# Altium footprint library Connector_PinHeader_1.27mm.PcbLib: 278 footprints (part 10 of 18)
Each footprint in its own frame and in the unit in brackets; x right, y up, seen from the top. Pads: shape width x height; smd on the part's side, far side on the other; paste and mask are expansions set on the pad; w line width, h text height; cw(c..) or ccw(c..) is an arc to the next point about the centre after c.
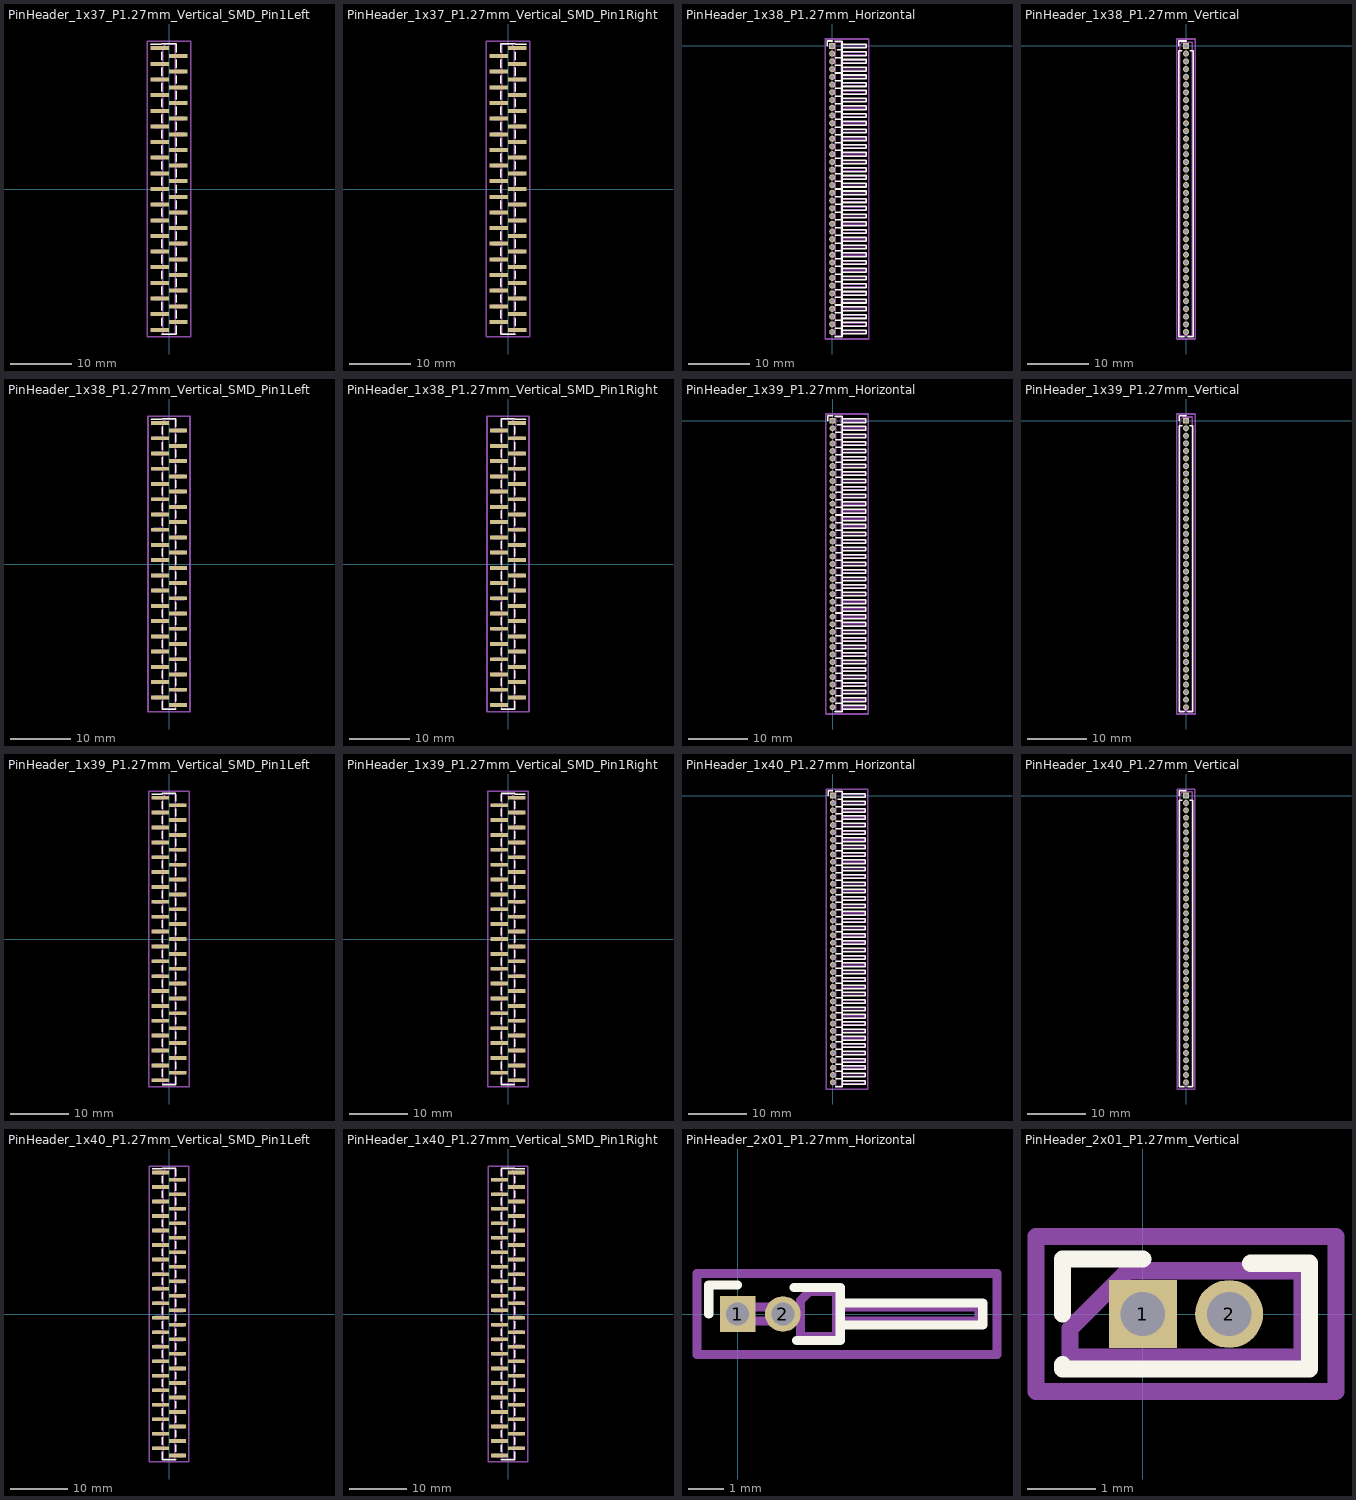
[diagram p9: the footprints below, top view; thin cyan lines are the x and y axes]

## PinHeader_1x37_P1.27mm_Vertical_SMD_Pin1Left [mm]
pads (37):
  rect 3x0.65 smd: 1(-1.5,22.86) 2(1.5,21.59) 3(-1.5,20.32) 4(1.5,19.05) 5(-1.5,17.78) 6(1.5,16.51) 7(-1.5,15.24) 8(1.5,13.97) 9(-1.5,12.7) 10(1.5,11.43) 11(-1.5,10.16) 12(1.5,8.89) 13(-1.5,7.62) 14(1.5,6.35) 15(-1.5,5.08) 16(1.5,3.81) 17(-1.5,2.54) 18(1.5,1.27) 19(-1.5,0) 20(1.5,-1.27) 21(-1.5,-2.54) 22(1.5,-3.81) 23(-1.5,-5.08) 24(1.5,-6.35) 25(-1.5,-7.62) 26(1.5,-8.89) 27(-1.5,-10.16) 28(1.5,-11.43) 29(-1.5,-12.7) 30(1.5,-13.97) 31(-1.5,-15.24) 32(1.5,-16.51) 33(-1.5,-17.78) 34(1.5,-19.05) 35(-1.5,-20.32) 36(1.5,-21.59) 37(-1.5,-22.86)
F.SilkS:
  lines w0.254: -2.94,23.495 -1.16,23.495 -1.16,23.605 1.16,23.605 ; -1.16,-23.605 1.16,-23.605 ; -1.16,-22.225 -1.16,-20.955 ; -1.16,-19.685 -1.16,-18.415 ; -1.16,-17.145 -1.16,-15.875 ; -1.16,-14.605 -1.16,-13.335 ; -1.16,-12.065 -1.16,-10.795 ; -1.16,-9.525 -1.16,-8.255 ; -1.16,-6.985 -1.16,-5.715 ; -1.16,-4.445 -1.16,-3.175 ; -1.16,-1.905 -1.16,-0.635 ; -1.16,0.635 -1.16,1.905 ; -1.16,3.175 -1.16,4.445 ; -1.16,5.715 -1.16,6.985 ; -1.16,8.255 -1.16,9.525 ; -1.16,10.795 -1.16,12.065 ; -1.16,13.335 -1.16,14.605 ; -1.16,15.875 -1.16,17.145 ; -1.16,18.415 -1.16,19.685 ; -1.16,20.955 -1.16,22.225 ; 1.16,-23.495 1.16,-23.605 ; 1.16,-22.225 1.16,-23.605 ; 1.16,-20.955 1.16,-19.685 ; 1.16,-18.415 1.16,-17.145 ; 1.16,-15.875 1.16,-14.605 ; 1.16,-13.335 1.16,-12.065 ; 1.16,-10.795 1.16,-9.525 ; 1.16,-8.255 1.16,-6.985 ; 1.16,-5.715 1.16,-4.445 ; 1.16,-3.175 1.16,-1.905 ; 1.16,-0.635 1.16,0.635 ; 1.16,1.905 1.16,3.175 ; 1.16,4.445 1.16,5.715 ; 1.16,6.985 1.16,8.255 ; 1.16,9.525 1.16,10.795 ; 1.16,12.065 1.16,13.335 ; 1.16,14.605 1.16,15.875 ; 1.16,17.145 1.16,18.415 ; 1.16,19.685 1.16,20.955 ; 1.16,22.225 1.16,23.495
Top Assembly:
  lines w0.254: -1.05,-23.06 -2.5,-23.06 -2.5,-22.66 -1.05,-22.66 ; -1.05,-20.52 -2.5,-20.52 -2.5,-20.12 -1.05,-20.12 ; -1.05,-17.98 -2.5,-17.98 -2.5,-17.58 -1.05,-17.58 ; -1.05,-15.44 -2.5,-15.44 -2.5,-15.04 -1.05,-15.04 ; -1.05,-12.9 -2.5,-12.9 -2.5,-12.5 -1.05,-12.5 ; -1.05,-10.36 -2.5,-10.36 -2.5,-9.96 -1.05,-9.96 ; -1.05,-7.82 -2.5,-7.82 -2.5,-7.42 -1.05,-7.42 ; -1.05,-5.28 -2.5,-5.28 -2.5,-4.88 -1.05,-4.88 ; -1.05,-2.74 -2.5,-2.74 -2.5,-2.34 -1.05,-2.34 ; -1.05,-0.2 -2.5,-0.2 -2.5,0.2 -1.05,0.2 ; -1.05,2.34 -2.5,2.34 -2.5,2.74 -1.05,2.74 ; -1.05,4.88 -2.5,4.88 -2.5,5.28 -1.05,5.28 ; -1.05,7.42 -2.5,7.42 -2.5,7.82 -1.05,7.82 ; -1.05,9.96 -2.5,9.96 -2.5,10.36 -1.05,10.36 ; -1.05,12.5 -2.5,12.5 -2.5,12.9 -1.05,12.9 ; -1.05,15.04 -2.5,15.04 -2.5,15.44 -1.05,15.44 ; -1.05,17.58 -2.5,17.58 -2.5,17.98 -1.05,17.98 ; -1.05,20.12 -2.5,20.12 -2.5,20.52 -1.05,20.52 ; -1.05,22.66 -2.5,22.66 -2.5,23.06 -1.05,23.06 ; 1.05,-21.79 2.5,-21.79 2.5,-21.39 1.05,-21.39 ; 1.05,-19.25 2.5,-19.25 2.5,-18.85 1.05,-18.85 ; 1.05,-16.71 2.5,-16.71 2.5,-16.31 1.05,-16.31 ; 1.05,-14.17 2.5,-14.17 2.5,-13.77 1.05,-13.77 ; 1.05,-11.63 2.5,-11.63 2.5,-11.23 1.05,-11.23 ; 1.05,-9.09 2.5,-9.09 2.5,-8.69 1.05,-8.69 ; 1.05,-6.55 2.5,-6.55 2.5,-6.15 1.05,-6.15 ; 1.05,-4.01 2.5,-4.01 2.5,-3.61 1.05,-3.61 ; 1.05,-1.47 2.5,-1.47 2.5,-1.07 1.05,-1.07 ; 1.05,1.07 2.5,1.07 2.5,1.47 1.05,1.47 ; 1.05,3.61 2.5,3.61 2.5,4.01 1.05,4.01 ; 1.05,6.15 2.5,6.15 2.5,6.55 1.05,6.55 ; 1.05,8.69 2.5,8.69 2.5,9.09 1.05,9.09 ; 1.05,11.23 2.5,11.23 2.5,11.63 1.05,11.63 ; 1.05,13.77 2.5,13.77 2.5,14.17 1.05,14.17 ; 1.05,16.31 2.5,16.31 2.5,16.71 1.05,16.71 ; 1.05,18.85 2.5,18.85 2.5,19.25 1.05,19.25 ; 1.05,21.39 2.5,21.39 2.5,21.79 1.05,21.79 ; -1.05,23.06 -1.05,-23.495 1.05,-23.495 1.05,23.495 -0.615,23.495 -1.05,23.06
  text "'.Designator'" at 0.84,-4.047 h1
Top Courtyard:
  lines w0.254: -3.5,-24 3.5,-24 3.5,24 -3.5,24 -3.5,-24
Top Designator:
  text ".Designator" at -7.618,-0.508 h1.52

## PinHeader_1x37_P1.27mm_Vertical_SMD_Pin1Right [mm]
pads (37):
  rect 3x0.65 smd: 1(1.5,22.86) 2(-1.5,21.59) 3(1.5,20.32) 4(-1.5,19.05) 5(1.5,17.78) 6(-1.5,16.51) 7(1.5,15.24) 8(-1.5,13.97) 9(1.5,12.7) 10(-1.5,11.43) 11(1.5,10.16) 12(-1.5,8.89) 13(1.5,7.62) 14(-1.5,6.35) 15(1.5,5.08) 16(-1.5,3.81) 17(1.5,2.54) 18(-1.5,1.27) 19(1.5,0) 20(-1.5,-1.27) 21(1.5,-2.54) 22(-1.5,-3.81) 23(1.5,-5.08) 24(-1.5,-6.35) 25(1.5,-7.62) 26(-1.5,-8.89) 27(1.5,-10.16) 28(-1.5,-11.43) 29(1.5,-12.7) 30(-1.5,-13.97) 31(1.5,-15.24) 32(-1.5,-16.51) 33(1.5,-17.78) 34(-1.5,-19.05) 35(1.5,-20.32) 36(-1.5,-21.59) 37(1.5,-22.86)
F.SilkS:
  lines w0.254: -1.16,-23.495 -1.16,-23.605 ; -1.16,-22.225 -1.16,-23.605 ; -1.16,-20.955 -1.16,-19.685 ; -1.16,-18.415 -1.16,-17.145 ; -1.16,-15.875 -1.16,-14.605 ; -1.16,-13.335 -1.16,-12.065 ; -1.16,-10.795 -1.16,-9.525 ; -1.16,-8.255 -1.16,-6.985 ; -1.16,-5.715 -1.16,-4.445 ; -1.16,-3.175 -1.16,-1.905 ; -1.16,-0.635 -1.16,0.635 ; -1.16,1.905 -1.16,3.175 ; -1.16,4.445 -1.16,5.715 ; -1.16,6.985 -1.16,8.255 ; -1.16,9.525 -1.16,10.795 ; -1.16,12.065 -1.16,13.335 ; -1.16,14.605 -1.16,15.875 ; -1.16,17.145 -1.16,18.415 ; -1.16,19.685 -1.16,20.955 ; -1.16,23.605 1.16,23.605 1.16,23.495 2.94,23.495 ; 1.16,-23.605 -1.16,-23.605 ; 1.16,-22.225 1.16,-20.955 ; 1.16,-19.685 1.16,-18.415 ; 1.16,-17.145 1.16,-15.875 ; 1.16,-14.605 1.16,-13.335 ; 1.16,-12.065 1.16,-10.795 ; 1.16,-9.525 1.16,-8.255 ; 1.16,-6.985 1.16,-5.715 ; 1.16,-4.445 1.16,-3.175 ; 1.16,-1.905 1.16,-0.635 ; 1.16,0.635 1.16,1.905 ; 1.16,3.175 1.16,4.445 ; 1.16,5.715 1.16,6.985 ; 1.16,8.255 1.16,9.525 ; 1.16,10.795 1.16,12.065 ; 1.16,13.335 1.16,14.605 ; 1.16,15.875 1.16,17.145 ; 1.16,18.415 1.16,19.685 ; 1.16,20.955 1.16,22.225 ; -1.16,22.225 -1.16,23.495 -1.16,22.225
Top Assembly:
  lines w0.254: -1.05,-21.79 -2.5,-21.79 -2.5,-21.39 -1.05,-21.39 ; -1.05,-19.25 -2.5,-19.25 -2.5,-18.85 -1.05,-18.85 ; -1.05,-16.71 -2.5,-16.71 -2.5,-16.31 -1.05,-16.31 ; -1.05,-14.17 -2.5,-14.17 -2.5,-13.77 -1.05,-13.77 ; -1.05,-11.63 -2.5,-11.63 -2.5,-11.23 -1.05,-11.23 ; -1.05,-9.09 -2.5,-9.09 -2.5,-8.69 -1.05,-8.69 ; -1.05,-6.55 -2.5,-6.55 -2.5,-6.15 -1.05,-6.15 ; -1.05,-4.01 -2.5,-4.01 -2.5,-3.61 -1.05,-3.61 ; -1.05,-1.47 -2.5,-1.47 -2.5,-1.07 -1.05,-1.07 ; -1.05,1.07 -2.5,1.07 -2.5,1.47 -1.05,1.47 ; -1.05,3.61 -2.5,3.61 -2.5,4.01 -1.05,4.01 ; -1.05,6.15 -2.5,6.15 -2.5,6.55 -1.05,6.55 ; -1.05,8.69 -2.5,8.69 -2.5,9.09 -1.05,9.09 ; -1.05,11.23 -2.5,11.23 -2.5,11.63 -1.05,11.63 ; -1.05,13.77 -2.5,13.77 -2.5,14.17 -1.05,14.17 ; -1.05,16.31 -2.5,16.31 -2.5,16.71 -1.05,16.71 ; -1.05,18.85 -2.5,18.85 -2.5,19.25 -1.05,19.25 ; -1.05,21.39 -2.5,21.39 -2.5,21.79 -1.05,21.79 ; 1.05,-23.06 2.5,-23.06 2.5,-22.66 1.05,-22.66 ; 1.05,-20.52 2.5,-20.52 2.5,-20.12 1.05,-20.12 ; 1.05,-17.98 2.5,-17.98 2.5,-17.58 1.05,-17.58 ; 1.05,-15.44 2.5,-15.44 2.5,-15.04 1.05,-15.04 ; 1.05,-12.9 2.5,-12.9 2.5,-12.5 1.05,-12.5 ; 1.05,-10.36 2.5,-10.36 2.5,-9.96 1.05,-9.96 ; 1.05,-7.82 2.5,-7.82 2.5,-7.42 1.05,-7.42 ; 1.05,-5.28 2.5,-5.28 2.5,-4.88 1.05,-4.88 ; 1.05,-2.74 2.5,-2.74 2.5,-2.34 1.05,-2.34 ; 1.05,-0.2 2.5,-0.2 2.5,0.2 1.05,0.2 ; 1.05,2.34 2.5,2.34 2.5,2.74 1.05,2.74 ; 1.05,4.88 2.5,4.88 2.5,5.28 1.05,5.28 ; 1.05,7.42 2.5,7.42 2.5,7.82 1.05,7.82 ; 1.05,9.96 2.5,9.96 2.5,10.36 1.05,10.36 ; 1.05,12.5 2.5,12.5 2.5,12.9 1.05,12.9 ; 1.05,15.04 2.5,15.04 2.5,15.44 1.05,15.44 ; 1.05,17.58 2.5,17.58 2.5,17.98 1.05,17.98 ; 1.05,20.12 2.5,20.12 2.5,20.52 1.05,20.52 ; 1.05,22.66 2.5,22.66 2.5,23.06 1.05,23.06 ; 1.05,23.06 1.05,-23.495 -1.05,-23.495 -1.05,23.495 0.615,23.495 1.05,23.06
  text "'.Designator'" at 0.84,-4.047 h1
Top Courtyard:
  lines w0.254: -3.5,-24 3.5,-24 3.5,24 -3.5,24 -3.5,-24
Top Designator:
  text ".Designator" at -7.618,-0.508 h1.52

## PinHeader_1x38_P1.27mm_Horizontal [mm]
pads (38):
  rect 1x1 hole 0.65: 1(0,0)
  round 1 hole 0.65: 2(0,-1.27) 3(0,-2.54) 4(0,-3.81) 5(0,-5.08) 6(0,-6.35) 7(0,-7.62) 8(0,-8.89) 9(0,-10.16) 10(0,-11.43) 11(0,-12.7) 12(0,-13.97) 13(0,-15.24) 14(0,-16.51) 15(0,-17.78) 16(0,-19.05) 17(0,-20.32) 18(0,-21.59) 19(0,-22.86) 20(0,-24.13) 21(0,-25.4) 22(0,-26.67) 23(0,-27.94) 24(0,-29.21) 25(0,-30.48) 26(0,-31.75) 27(0,-33.02) 28(0,-34.29) 29(0,-35.56) 30(0,-36.83) 31(0,-38.1) 32(0,-39.37) 33(0,-40.64) 34(0,-41.91) 35(0,-43.18) 36(0,-44.45) 37(0,-45.72) 38(0,-46.99)
F.SilkS:
  drawing of 157 lines, arcs and shapes, not listed
Top Assembly:
  drawing of 233 lines, arcs and shapes, not listed
  text "'.Designator'" at 1.504,-25.923 h0.6
Top Courtyard:
  lines w0.254: -1.14,-48.13 6,-48.13 6,1.14 -1.14,1.14 -1.14,-48.13
Top Designator:
  text ".Designator" at -5.188,-24.003 h1.52

## PinHeader_1x38_P1.27mm_Vertical [mm]
pads (38):
  rect 1x1 hole 0.65: 1(0,0)
  round 1 hole 0.65: 2(0,-1.27) 3(0,-2.54) 4(0,-3.81) 5(0,-5.08) 6(0,-6.35) 7(0,-7.62) 8(0,-8.89) 9(0,-10.16) 10(0,-11.43) 11(0,-12.7) 12(0,-13.97) 13(0,-15.24) 14(0,-16.51) 15(0,-17.78) 16(0,-19.05) 17(0,-20.32) 18(0,-21.59) 19(0,-22.86) 20(0,-24.13) 21(0,-25.4) 22(0,-26.67) 23(0,-27.94) 24(0,-29.21) 25(0,-30.48) 26(0,-31.75) 27(0,-33.02) 28(0,-34.29) 29(0,-35.56) 30(0,-36.83) 31(0,-38.1) 32(0,-39.37) 33(0,-40.64) 34(0,-41.91) 35(0,-43.18) 36(0,-44.45) 37(0,-45.72) 38(0,-46.99)
F.SilkS:
  lines w0.254: -1.16,0 -1.16,0.81 0,0.81 ; -0.667,-0.81 -1.16,-0.81 -1.16,-47.735 -0.318,-47.735 ; 0.318,-47.735 1.16,-47.735 1.16,-0.81 0.667,-0.81
Top Assembly:
  lines w0.254: -1.05,-47.625 1.05,-47.625 1.05,0.635 -0.525,0.635 -1.05,0.11 -1.05,-47.625
  text "'.Designator'" at 0.84,-27.542 h1
Top Courtyard:
  lines w0.254: -1.55,-48.13 1.55,-48.13 1.55,1.14 -1.55,1.14 -1.55,-48.13
Top Designator:
  text ".Designator" at -7.618,-24.003 h1.52

## PinHeader_1x38_P1.27mm_Vertical_SMD_Pin1Left [mm]
pads (38):
  rect 3x0.65 smd: 1(-1.5,23.495) 2(1.5,22.225) 3(-1.5,20.955) 4(1.5,19.685) 5(-1.5,18.415) 6(1.5,17.145) 7(-1.5,15.875) 8(1.5,14.605) 9(-1.5,13.335) 10(1.5,12.065) 11(-1.5,10.795) 12(1.5,9.525) 13(-1.5,8.255) 14(1.5,6.985) 15(-1.5,5.715) 16(1.5,4.445) 17(-1.5,3.175) 18(1.5,1.905) 19(-1.5,0.635) 20(1.5,-0.635) 21(-1.5,-1.905) 22(1.5,-3.175) 23(-1.5,-4.445) 24(1.5,-5.715) 25(-1.5,-6.985) 26(1.5,-8.255) 27(-1.5,-9.525) 28(1.5,-10.795) 29(-1.5,-12.065) 30(1.5,-13.335) 31(-1.5,-14.605) 32(1.5,-15.875) 33(-1.5,-17.145) 34(1.5,-18.415) 35(-1.5,-19.685) 36(1.5,-20.955) 37(-1.5,-22.225) 38(1.5,-23.495)
F.SilkS:
  lines w0.254: -2.94,24.13 -1.16,24.13 -1.16,24.24 1.16,24.24 ; -1.16,-22.86 -1.16,-24.24 1.16,-24.24 1.16,-24.13 ; -1.16,-21.59 -1.16,-20.32 ; -1.16,-19.05 -1.16,-17.78 ; -1.16,-16.51 -1.16,-15.24 ; -1.16,-13.97 -1.16,-12.7 ; -1.16,-11.43 -1.16,-10.16 ; -1.16,-8.89 -1.16,-7.62 ; -1.16,-6.35 -1.16,-5.08 ; -1.16,-3.81 -1.16,-2.54 ; -1.16,-1.27 -1.16,0 ; -1.16,1.27 -1.16,2.54 ; -1.16,3.81 -1.16,5.08 ; -1.16,6.35 -1.16,7.62 ; -1.16,8.89 -1.16,10.16 ; -1.16,11.43 -1.16,12.7 ; -1.16,13.97 -1.16,15.24 ; -1.16,16.51 -1.16,17.78 ; -1.16,19.05 -1.16,20.32 ; -1.16,21.59 -1.16,22.86 ; 1.16,-22.86 1.16,-21.59 ; 1.16,-20.32 1.16,-19.05 ; 1.16,-17.78 1.16,-16.51 ; 1.16,-15.24 1.16,-13.97 ; 1.16,-12.7 1.16,-11.43 ; 1.16,-10.16 1.16,-8.89 ; 1.16,-7.62 1.16,-6.35 ; 1.16,-5.08 1.16,-3.81 ; 1.16,-2.54 1.16,-1.27 ; 1.16,0 1.16,1.27 ; 1.16,2.54 1.16,3.81 ; 1.16,5.08 1.16,6.35 ; 1.16,7.62 1.16,8.89 ; 1.16,10.16 1.16,11.43 ; 1.16,12.7 1.16,13.97 ; 1.16,15.24 1.16,16.51 ; 1.16,17.78 1.16,19.05 ; 1.16,20.32 1.16,21.59 ; 1.16,22.86 1.16,24.13
Top Assembly:
  lines w0.254: -1.05,-22.425 -2.5,-22.425 -2.5,-22.025 -1.05,-22.025 ; -1.05,-19.885 -2.5,-19.885 -2.5,-19.485 -1.05,-19.485 ; -1.05,-17.345 -2.5,-17.345 -2.5,-16.945 -1.05,-16.945 ; -1.05,-14.805 -2.5,-14.805 -2.5,-14.405 -1.05,-14.405 ; -1.05,-12.265 -2.5,-12.265 -2.5,-11.865 -1.05,-11.865 ; -1.05,-9.725 -2.5,-9.725 -2.5,-9.325 -1.05,-9.325 ; -1.05,-7.185 -2.5,-7.185 -2.5,-6.785 -1.05,-6.785 ; -1.05,-4.645 -2.5,-4.645 -2.5,-4.245 -1.05,-4.245 ; -1.05,-2.105 -2.5,-2.105 -2.5,-1.705 -1.05,-1.705 ; -1.05,0.435 -2.5,0.435 -2.5,0.835 -1.05,0.835 ; -1.05,2.975 -2.5,2.975 -2.5,3.375 -1.05,3.375 ; -1.05,5.515 -2.5,5.515 -2.5,5.915 -1.05,5.915 ; -1.05,8.055 -2.5,8.055 -2.5,8.455 -1.05,8.455 ; -1.05,10.595 -2.5,10.595 -2.5,10.995 -1.05,10.995 ; -1.05,13.135 -2.5,13.135 -2.5,13.535 -1.05,13.535 ; -1.05,15.675 -2.5,15.675 -2.5,16.075 -1.05,16.075 ; -1.05,18.215 -2.5,18.215 -2.5,18.615 -1.05,18.615 ; -1.05,20.755 -2.5,20.755 -2.5,21.155 -1.05,21.155 ; -1.05,23.295 -2.5,23.295 -2.5,23.695 -1.05,23.695 ; 1.05,-23.695 2.5,-23.695 2.5,-23.295 1.05,-23.295 ; 1.05,-21.155 2.5,-21.155 2.5,-20.755 1.05,-20.755 ; 1.05,-18.615 2.5,-18.615 2.5,-18.215 1.05,-18.215 ; 1.05,-16.075 2.5,-16.075 2.5,-15.675 1.05,-15.675 ; 1.05,-13.535 2.5,-13.535 2.5,-13.135 1.05,-13.135 ; 1.05,-10.995 2.5,-10.995 2.5,-10.595 1.05,-10.595 ; 1.05,-8.455 2.5,-8.455 2.5,-8.055 1.05,-8.055 ; 1.05,-5.915 2.5,-5.915 2.5,-5.515 1.05,-5.515 ; 1.05,-3.375 2.5,-3.375 2.5,-2.975 1.05,-2.975 ; 1.05,-0.835 2.5,-0.835 2.5,-0.435 1.05,-0.435 ; 1.05,1.705 2.5,1.705 2.5,2.105 1.05,2.105 ; 1.05,4.245 2.5,4.245 2.5,4.645 1.05,4.645 ; 1.05,6.785 2.5,6.785 2.5,7.185 1.05,7.185 ; 1.05,9.325 2.5,9.325 2.5,9.725 1.05,9.725 ; 1.05,11.865 2.5,11.865 2.5,12.265 1.05,12.265 ; 1.05,14.405 2.5,14.405 2.5,14.805 1.05,14.805 ; 1.05,16.945 2.5,16.945 2.5,17.345 1.05,17.345 ; 1.05,19.485 2.5,19.485 2.5,19.885 1.05,19.885 ; 1.05,22.025 2.5,22.025 2.5,22.425 1.05,22.425 ; -1.05,23.695 -1.05,-24.13 1.05,-24.13 1.05,24.13 -0.615,24.13 -1.05,23.695
  text "'.Designator'" at 0.84,-4.047 h1
Top Courtyard:
  lines w0.254: -3.5,-24.63 3.5,-24.63 3.5,24.63 -3.5,24.63 -3.5,-24.63
Top Designator:
  text ".Designator" at -7.618,-0.508 h1.52

## PinHeader_1x38_P1.27mm_Vertical_SMD_Pin1Right [mm]
pads (38):
  rect 3x0.65 smd: 1(1.5,23.495) 2(-1.5,22.225) 3(1.5,20.955) 4(-1.5,19.685) 5(1.5,18.415) 6(-1.5,17.145) 7(1.5,15.875) 8(-1.5,14.605) 9(1.5,13.335) 10(-1.5,12.065) 11(1.5,10.795) 12(-1.5,9.525) 13(1.5,8.255) 14(-1.5,6.985) 15(1.5,5.715) 16(-1.5,4.445) 17(1.5,3.175) 18(-1.5,1.905) 19(1.5,0.635) 20(-1.5,-0.635) 21(1.5,-1.905) 22(-1.5,-3.175) 23(1.5,-4.445) 24(-1.5,-5.715) 25(1.5,-6.985) 26(-1.5,-8.255) 27(1.5,-9.525) 28(-1.5,-10.795) 29(1.5,-12.065) 30(-1.5,-13.335) 31(1.5,-14.605) 32(-1.5,-15.875) 33(1.5,-17.145) 34(-1.5,-18.415) 35(1.5,-19.685) 36(-1.5,-20.955) 37(1.5,-22.225) 38(-1.5,-23.495)
F.SilkS:
  lines w0.254: -1.16,-24.13 -1.16,-24.24 1.16,-24.24 1.16,-22.86 ; -1.16,-22.86 -1.16,-21.59 ; -1.16,-20.32 -1.16,-19.05 ; -1.16,-17.78 -1.16,-16.51 ; -1.16,-15.24 -1.16,-13.97 ; -1.16,-12.7 -1.16,-11.43 ; -1.16,-10.16 -1.16,-8.89 ; -1.16,-7.62 -1.16,-6.35 ; -1.16,-5.08 -1.16,-3.81 ; -1.16,-2.54 -1.16,-1.27 ; -1.16,0 -1.16,1.27 ; -1.16,2.54 -1.16,3.81 ; -1.16,5.08 -1.16,6.35 ; -1.16,7.62 -1.16,8.89 ; -1.16,10.16 -1.16,11.43 ; -1.16,12.7 -1.16,13.97 ; -1.16,15.24 -1.16,16.51 ; -1.16,17.78 -1.16,19.05 ; -1.16,20.32 -1.16,21.59 ; -1.16,24.24 1.16,24.24 1.16,24.13 2.94,24.13 ; 1.16,-21.59 1.16,-20.32 ; 1.16,-19.05 1.16,-17.78 ; 1.16,-16.51 1.16,-15.24 ; 1.16,-13.97 1.16,-12.7 ; 1.16,-11.43 1.16,-10.16 ; 1.16,-8.89 1.16,-7.62 ; 1.16,-6.35 1.16,-5.08 ; 1.16,-3.81 1.16,-2.54 ; 1.16,-1.27 1.16,0 ; 1.16,1.27 1.16,2.54 ; 1.16,3.81 1.16,5.08 ; 1.16,6.35 1.16,7.62 ; 1.16,8.89 1.16,10.16 ; 1.16,11.43 1.16,12.7 ; 1.16,13.97 1.16,15.24 ; 1.16,16.51 1.16,17.78 ; 1.16,19.05 1.16,20.32 ; 1.16,21.59 1.16,22.86 ; -1.16,22.86 -1.16,24.13 -1.16,22.86
Top Assembly:
  lines w0.254: -1.05,-23.695 -2.5,-23.695 -2.5,-23.295 -1.05,-23.295 ; -1.05,-21.155 -2.5,-21.155 -2.5,-20.755 -1.05,-20.755 ; -1.05,-18.615 -2.5,-18.615 -2.5,-18.215 -1.05,-18.215 ; -1.05,-16.075 -2.5,-16.075 -2.5,-15.675 -1.05,-15.675 ; -1.05,-13.535 -2.5,-13.535 -2.5,-13.135 -1.05,-13.135 ; -1.05,-10.995 -2.5,-10.995 -2.5,-10.595 -1.05,-10.595 ; -1.05,-8.455 -2.5,-8.455 -2.5,-8.055 -1.05,-8.055 ; -1.05,-5.915 -2.5,-5.915 -2.5,-5.515 -1.05,-5.515 ; -1.05,-3.375 -2.5,-3.375 -2.5,-2.975 -1.05,-2.975 ; -1.05,-0.835 -2.5,-0.835 -2.5,-0.435 -1.05,-0.435 ; -1.05,1.705 -2.5,1.705 -2.5,2.105 -1.05,2.105 ; -1.05,4.245 -2.5,4.245 -2.5,4.645 -1.05,4.645 ; -1.05,6.785 -2.5,6.785 -2.5,7.185 -1.05,7.185 ; -1.05,9.325 -2.5,9.325 -2.5,9.725 -1.05,9.725 ; -1.05,11.865 -2.5,11.865 -2.5,12.265 -1.05,12.265 ; -1.05,14.405 -2.5,14.405 -2.5,14.805 -1.05,14.805 ; -1.05,16.945 -2.5,16.945 -2.5,17.345 -1.05,17.345 ; -1.05,19.485 -2.5,19.485 -2.5,19.885 -1.05,19.885 ; -1.05,22.025 -2.5,22.025 -2.5,22.425 -1.05,22.425 ; 1.05,-22.425 2.5,-22.425 2.5,-22.025 1.05,-22.025 ; 1.05,-19.885 2.5,-19.885 2.5,-19.485 1.05,-19.485 ; 1.05,-17.345 2.5,-17.345 2.5,-16.945 1.05,-16.945 ; 1.05,-14.805 2.5,-14.805 2.5,-14.405 1.05,-14.405 ; 1.05,-12.265 2.5,-12.265 2.5,-11.865 1.05,-11.865 ; 1.05,-9.725 2.5,-9.725 2.5,-9.325 1.05,-9.325 ; 1.05,-7.185 2.5,-7.185 2.5,-6.785 1.05,-6.785 ; 1.05,-4.645 2.5,-4.645 2.5,-4.245 1.05,-4.245 ; 1.05,-2.105 2.5,-2.105 2.5,-1.705 1.05,-1.705 ; 1.05,0.435 2.5,0.435 2.5,0.835 1.05,0.835 ; 1.05,2.975 2.5,2.975 2.5,3.375 1.05,3.375 ; 1.05,5.515 2.5,5.515 2.5,5.915 1.05,5.915 ; 1.05,8.055 2.5,8.055 2.5,8.455 1.05,8.455 ; 1.05,10.595 2.5,10.595 2.5,10.995 1.05,10.995 ; 1.05,13.135 2.5,13.135 2.5,13.535 1.05,13.535 ; 1.05,15.675 2.5,15.675 2.5,16.075 1.05,16.075 ; 1.05,18.215 2.5,18.215 2.5,18.615 1.05,18.615 ; 1.05,20.755 2.5,20.755 2.5,21.155 1.05,21.155 ; 1.05,23.295 2.5,23.295 2.5,23.695 1.05,23.695 ; 1.05,23.695 1.05,-24.13 -1.05,-24.13 -1.05,24.13 0.615,24.13 1.05,23.695
  text "'.Designator'" at 0.84,-4.047 h1
Top Courtyard:
  lines w0.254: -3.5,-24.63 3.5,-24.63 3.5,24.63 -3.5,24.63 -3.5,-24.63
Top Designator:
  text ".Designator" at -7.618,-0.508 h1.52

## PinHeader_1x39_P1.27mm_Horizontal [mm]
pads (39):
  rect 1x1 hole 0.65: 1(0,0)
  round 1 hole 0.65: 2(0,-1.27) 3(0,-2.54) 4(0,-3.81) 5(0,-5.08) 6(0,-6.35) 7(0,-7.62) 8(0,-8.89) 9(0,-10.16) 10(0,-11.43) 11(0,-12.7) 12(0,-13.97) 13(0,-15.24) 14(0,-16.51) 15(0,-17.78) 16(0,-19.05) 17(0,-20.32) 18(0,-21.59) 19(0,-22.86) 20(0,-24.13) 21(0,-25.4) 22(0,-26.67) 23(0,-27.94) 24(0,-29.21) 25(0,-30.48) 26(0,-31.75) 27(0,-33.02) 28(0,-34.29) 29(0,-35.56) 30(0,-36.83) 31(0,-38.1) 32(0,-39.37) 33(0,-40.64) 34(0,-41.91) 35(0,-43.18) 36(0,-44.45) 37(0,-45.72) 38(0,-46.99) 39(0,-48.26)
F.SilkS:
  drawing of 161 lines, arcs and shapes, not listed
Top Assembly:
  drawing of 239 lines, arcs and shapes, not listed
  text "'.Designator'" at 1.504,-26.558 h0.6
Top Courtyard:
  lines w0.254: -1.14,-49.4 6,-49.4 6,1.14 -1.14,1.14 -1.14,-49.4
Top Designator:
  text ".Designator" at -5.188,-24.638 h1.52

## PinHeader_1x39_P1.27mm_Vertical [mm]
pads (39):
  rect 1x1 hole 0.65: 1(0,0)
  round 1 hole 0.65: 2(0,-1.27) 3(0,-2.54) 4(0,-3.81) 5(0,-5.08) 6(0,-6.35) 7(0,-7.62) 8(0,-8.89) 9(0,-10.16) 10(0,-11.43) 11(0,-12.7) 12(0,-13.97) 13(0,-15.24) 14(0,-16.51) 15(0,-17.78) 16(0,-19.05) 17(0,-20.32) 18(0,-21.59) 19(0,-22.86) 20(0,-24.13) 21(0,-25.4) 22(0,-26.67) 23(0,-27.94) 24(0,-29.21) 25(0,-30.48) 26(0,-31.75) 27(0,-33.02) 28(0,-34.29) 29(0,-35.56) 30(0,-36.83) 31(0,-38.1) 32(0,-39.37) 33(0,-40.64) 34(0,-41.91) 35(0,-43.18) 36(0,-44.45) 37(0,-45.72) 38(0,-46.99) 39(0,-48.26)
F.SilkS:
  lines w0.254: -1.16,0 -1.16,0.81 0,0.81 ; -0.667,-0.81 -1.16,-0.81 -1.16,-49.005 -0.318,-49.005 ; 0.318,-49.005 1.16,-49.005 1.16,-0.81 0.667,-0.81
Top Assembly:
  lines w0.254: -1.05,-48.895 1.05,-48.895 1.05,0.635 -0.525,0.635 -1.05,0.11 -1.05,-48.895
  text "'.Designator'" at 0.84,-28.177 h1
Top Courtyard:
  lines w0.254: -1.55,-49.4 1.55,-49.4 1.55,1.14 -1.55,1.14 -1.55,-49.4
Top Designator:
  text ".Designator" at -7.618,-24.638 h1.52

## PinHeader_1x39_P1.27mm_Vertical_SMD_Pin1Left [mm]
pads (39):
  rect 3x0.65 smd: 1(-1.5,24.13) 2(1.5,22.86) 3(-1.5,21.59) 4(1.5,20.32) 5(-1.5,19.05) 6(1.5,17.78) 7(-1.5,16.51) 8(1.5,15.24) 9(-1.5,13.97) 10(1.5,12.7) 11(-1.5,11.43) 12(1.5,10.16) 13(-1.5,8.89) 14(1.5,7.62) 15(-1.5,6.35) 16(1.5,5.08) 17(-1.5,3.81) 18(1.5,2.54) 19(-1.5,1.27) 20(1.5,0) 21(-1.5,-1.27) 22(1.5,-2.54) 23(-1.5,-3.81) 24(1.5,-5.08) 25(-1.5,-6.35) 26(1.5,-7.62) 27(-1.5,-8.89) 28(1.5,-10.16) 29(-1.5,-11.43) 30(1.5,-12.7) 31(-1.5,-13.97) 32(1.5,-15.24) 33(-1.5,-16.51) 34(1.5,-17.78) 35(-1.5,-19.05) 36(1.5,-20.32) 37(-1.5,-21.59) 38(1.5,-22.86) 39(-1.5,-24.13)
F.SilkS:
  lines w0.254: -2.94,24.765 -1.16,24.765 -1.16,24.875 1.16,24.875 ; -1.16,-24.875 1.16,-24.875 ; -1.16,-23.495 -1.16,-22.225 ; -1.16,-20.955 -1.16,-19.685 ; -1.16,-18.415 -1.16,-17.145 ; -1.16,-15.875 -1.16,-14.605 ; -1.16,-13.335 -1.16,-12.065 ; -1.16,-10.795 -1.16,-9.525 ; -1.16,-8.255 -1.16,-6.985 ; -1.16,-5.715 -1.16,-4.445 ; -1.16,-3.175 -1.16,-1.905 ; -1.16,-0.635 -1.16,0.635 ; -1.16,1.905 -1.16,3.175 ; -1.16,4.445 -1.16,5.715 ; -1.16,6.985 -1.16,8.255 ; -1.16,9.525 -1.16,10.795 ; -1.16,12.065 -1.16,13.335 ; -1.16,14.605 -1.16,15.875 ; -1.16,17.145 -1.16,18.415 ; -1.16,19.685 -1.16,20.955 ; -1.16,22.225 -1.16,23.495 ; 1.16,-24.765 1.16,-24.875 ; 1.16,-23.495 1.16,-24.875 ; 1.16,-22.225 1.16,-20.955 ; 1.16,-19.685 1.16,-18.415 ; 1.16,-17.145 1.16,-15.875 ; 1.16,-14.605 1.16,-13.335 ; 1.16,-12.065 1.16,-10.795 ; 1.16,-9.525 1.16,-8.255 ; 1.16,-6.985 1.16,-5.715 ; 1.16,-4.445 1.16,-3.175 ; 1.16,-1.905 1.16,-0.635 ; 1.16,0.635 1.16,1.905 ; 1.16,3.175 1.16,4.445 ; 1.16,5.715 1.16,6.985 ; 1.16,8.255 1.16,9.525 ; 1.16,10.795 1.16,12.065 ; 1.16,13.335 1.16,14.605 ; 1.16,15.875 1.16,17.145 ; 1.16,18.415 1.16,19.685 ; 1.16,20.955 1.16,22.225 ; 1.16,23.495 1.16,24.765
Top Assembly:
  lines w0.254: -1.05,-24.33 -2.5,-24.33 -2.5,-23.93 -1.05,-23.93 ; -1.05,-21.79 -2.5,-21.79 -2.5,-21.39 -1.05,-21.39 ; -1.05,-19.25 -2.5,-19.25 -2.5,-18.85 -1.05,-18.85 ; -1.05,-16.71 -2.5,-16.71 -2.5,-16.31 -1.05,-16.31 ; -1.05,-14.17 -2.5,-14.17 -2.5,-13.77 -1.05,-13.77 ; -1.05,-11.63 -2.5,-11.63 -2.5,-11.23 -1.05,-11.23 ; -1.05,-9.09 -2.5,-9.09 -2.5,-8.69 -1.05,-8.69 ; -1.05,-6.55 -2.5,-6.55 -2.5,-6.15 -1.05,-6.15 ; -1.05,-4.01 -2.5,-4.01 -2.5,-3.61 -1.05,-3.61 ; -1.05,-1.47 -2.5,-1.47 -2.5,-1.07 -1.05,-1.07 ; -1.05,1.07 -2.5,1.07 -2.5,1.47 -1.05,1.47 ; -1.05,3.61 -2.5,3.61 -2.5,4.01 -1.05,4.01 ; -1.05,6.15 -2.5,6.15 -2.5,6.55 -1.05,6.55 ; -1.05,8.69 -2.5,8.69 -2.5,9.09 -1.05,9.09 ; -1.05,11.23 -2.5,11.23 -2.5,11.63 -1.05,11.63 ; -1.05,13.77 -2.5,13.77 -2.5,14.17 -1.05,14.17 ; -1.05,16.31 -2.5,16.31 -2.5,16.71 -1.05,16.71 ; -1.05,18.85 -2.5,18.85 -2.5,19.25 -1.05,19.25 ; -1.05,21.39 -2.5,21.39 -2.5,21.79 -1.05,21.79 ; -1.05,23.93 -2.5,23.93 -2.5,24.33 -1.05,24.33 ; 1.05,-23.06 2.5,-23.06 2.5,-22.66 1.05,-22.66 ; 1.05,-20.52 2.5,-20.52 2.5,-20.12 1.05,-20.12 ; 1.05,-17.98 2.5,-17.98 2.5,-17.58 1.05,-17.58 ; 1.05,-15.44 2.5,-15.44 2.5,-15.04 1.05,-15.04 ; 1.05,-12.9 2.5,-12.9 2.5,-12.5 1.05,-12.5 ; 1.05,-10.36 2.5,-10.36 2.5,-9.96 1.05,-9.96 ; 1.05,-7.82 2.5,-7.82 2.5,-7.42 1.05,-7.42 ; 1.05,-5.28 2.5,-5.28 2.5,-4.88 1.05,-4.88 ; 1.05,-2.74 2.5,-2.74 2.5,-2.34 1.05,-2.34 ; 1.05,-0.2 2.5,-0.2 2.5,0.2 1.05,0.2 ; 1.05,2.34 2.5,2.34 2.5,2.74 1.05,2.74 ; 1.05,4.88 2.5,4.88 2.5,5.28 1.05,5.28 ; 1.05,7.42 2.5,7.42 2.5,7.82 1.05,7.82 ; 1.05,9.96 2.5,9.96 2.5,10.36 1.05,10.36 ; 1.05,12.5 2.5,12.5 2.5,12.9 1.05,12.9 ; 1.05,15.04 2.5,15.04 2.5,15.44 1.05,15.44 ; 1.05,17.58 2.5,17.58 2.5,17.98 1.05,17.98 ; 1.05,20.12 2.5,20.12 2.5,20.52 1.05,20.52 ; 1.05,22.66 2.5,22.66 2.5,23.06 1.05,23.06 ; -1.05,24.33 -1.05,-24.765 1.05,-24.765 1.05,24.765 -0.615,24.765 -1.05,24.33
  text "'.Designator'" at 0.84,-4.047 h1
Top Courtyard:
  lines w0.254: -3.5,-25.27 3.5,-25.27 3.5,25.27 -3.5,25.27 -3.5,-25.27
Top Designator:
  text ".Designator" at -7.618,-0.508 h1.52

## PinHeader_1x39_P1.27mm_Vertical_SMD_Pin1Right [mm]
pads (39):
  rect 3x0.65 smd: 1(1.5,24.13) 2(-1.5,22.86) 3(1.5,21.59) 4(-1.5,20.32) 5(1.5,19.05) 6(-1.5,17.78) 7(1.5,16.51) 8(-1.5,15.24) 9(1.5,13.97) 10(-1.5,12.7) 11(1.5,11.43) 12(-1.5,10.16) 13(1.5,8.89) 14(-1.5,7.62) 15(1.5,6.35) 16(-1.5,5.08) 17(1.5,3.81) 18(-1.5,2.54) 19(1.5,1.27) 20(-1.5,0) 21(1.5,-1.27) 22(-1.5,-2.54) 23(1.5,-3.81) 24(-1.5,-5.08) 25(1.5,-6.35) 26(-1.5,-7.62) 27(1.5,-8.89) 28(-1.5,-10.16) 29(1.5,-11.43) 30(-1.5,-12.7) 31(1.5,-13.97) 32(-1.5,-15.24) 33(1.5,-16.51) 34(-1.5,-17.78) 35(1.5,-19.05) 36(-1.5,-20.32) 37(1.5,-21.59) 38(-1.5,-22.86) 39(1.5,-24.13)
F.SilkS:
  lines w0.254: -1.16,-24.765 -1.16,-24.875 ; -1.16,-23.495 -1.16,-24.875 ; -1.16,-22.225 -1.16,-20.955 ; -1.16,-19.685 -1.16,-18.415 ; -1.16,-17.145 -1.16,-15.875 ; -1.16,-14.605 -1.16,-13.335 ; -1.16,-12.065 -1.16,-10.795 ; -1.16,-9.525 -1.16,-8.255 ; -1.16,-6.985 -1.16,-5.715 ; -1.16,-4.445 -1.16,-3.175 ; -1.16,-1.905 -1.16,-0.635 ; -1.16,0.635 -1.16,1.905 ; -1.16,3.175 -1.16,4.445 ; -1.16,5.715 -1.16,6.985 ; -1.16,8.255 -1.16,9.525 ; -1.16,10.795 -1.16,12.065 ; -1.16,13.335 -1.16,14.605 ; -1.16,15.875 -1.16,17.145 ; -1.16,18.415 -1.16,19.685 ; -1.16,20.955 -1.16,22.225 ; -1.16,24.875 1.16,24.875 1.16,24.765 2.94,24.765 ; 1.16,-24.875 -1.16,-24.875 ; 1.16,-23.495 1.16,-22.225 ; 1.16,-20.955 1.16,-19.685 ; 1.16,-18.415 1.16,-17.145 ; 1.16,-15.875 1.16,-14.605 ; 1.16,-13.335 1.16,-12.065 ; 1.16,-10.795 1.16,-9.525 ; 1.16,-8.255 1.16,-6.985 ; 1.16,-5.715 1.16,-4.445 ; 1.16,-3.175 1.16,-1.905 ; 1.16,-0.635 1.16,0.635 ; 1.16,1.905 1.16,3.175 ; 1.16,4.445 1.16,5.715 ; 1.16,6.985 1.16,8.255 ; 1.16,9.525 1.16,10.795 ; 1.16,12.065 1.16,13.335 ; 1.16,14.605 1.16,15.875 ; 1.16,17.145 1.16,18.415 ; 1.16,19.685 1.16,20.955 ; 1.16,22.225 1.16,23.495 ; -1.16,23.495 -1.16,24.765 -1.16,23.495
Top Assembly:
  lines w0.254: -1.05,-23.06 -2.5,-23.06 -2.5,-22.66 -1.05,-22.66 ; -1.05,-20.52 -2.5,-20.52 -2.5,-20.12 -1.05,-20.12 ; -1.05,-17.98 -2.5,-17.98 -2.5,-17.58 -1.05,-17.58 ; -1.05,-15.44 -2.5,-15.44 -2.5,-15.04 -1.05,-15.04 ; -1.05,-12.9 -2.5,-12.9 -2.5,-12.5 -1.05,-12.5 ; -1.05,-10.36 -2.5,-10.36 -2.5,-9.96 -1.05,-9.96 ; -1.05,-7.82 -2.5,-7.82 -2.5,-7.42 -1.05,-7.42 ; -1.05,-5.28 -2.5,-5.28 -2.5,-4.88 -1.05,-4.88 ; -1.05,-2.74 -2.5,-2.74 -2.5,-2.34 -1.05,-2.34 ; -1.05,-0.2 -2.5,-0.2 -2.5,0.2 -1.05,0.2 ; -1.05,2.34 -2.5,2.34 -2.5,2.74 -1.05,2.74 ; -1.05,4.88 -2.5,4.88 -2.5,5.28 -1.05,5.28 ; -1.05,7.42 -2.5,7.42 -2.5,7.82 -1.05,7.82 ; -1.05,9.96 -2.5,9.96 -2.5,10.36 -1.05,10.36 ; -1.05,12.5 -2.5,12.5 -2.5,12.9 -1.05,12.9 ; -1.05,15.04 -2.5,15.04 -2.5,15.44 -1.05,15.44 ; -1.05,17.58 -2.5,17.58 -2.5,17.98 -1.05,17.98 ; -1.05,20.12 -2.5,20.12 -2.5,20.52 -1.05,20.52 ; -1.05,22.66 -2.5,22.66 -2.5,23.06 -1.05,23.06 ; 1.05,-24.33 2.5,-24.33 2.5,-23.93 1.05,-23.93 ; 1.05,-21.79 2.5,-21.79 2.5,-21.39 1.05,-21.39 ; 1.05,-19.25 2.5,-19.25 2.5,-18.85 1.05,-18.85 ; 1.05,-16.71 2.5,-16.71 2.5,-16.31 1.05,-16.31 ; 1.05,-14.17 2.5,-14.17 2.5,-13.77 1.05,-13.77 ; 1.05,-11.63 2.5,-11.63 2.5,-11.23 1.05,-11.23 ; 1.05,-9.09 2.5,-9.09 2.5,-8.69 1.05,-8.69 ; 1.05,-6.55 2.5,-6.55 2.5,-6.15 1.05,-6.15 ; 1.05,-4.01 2.5,-4.01 2.5,-3.61 1.05,-3.61 ; 1.05,-1.47 2.5,-1.47 2.5,-1.07 1.05,-1.07 ; 1.05,1.07 2.5,1.07 2.5,1.47 1.05,1.47 ; 1.05,3.61 2.5,3.61 2.5,4.01 1.05,4.01 ; 1.05,6.15 2.5,6.15 2.5,6.55 1.05,6.55 ; 1.05,8.69 2.5,8.69 2.5,9.09 1.05,9.09 ; 1.05,11.23 2.5,11.23 2.5,11.63 1.05,11.63 ; 1.05,13.77 2.5,13.77 2.5,14.17 1.05,14.17 ; 1.05,16.31 2.5,16.31 2.5,16.71 1.05,16.71 ; 1.05,18.85 2.5,18.85 2.5,19.25 1.05,19.25 ; 1.05,21.39 2.5,21.39 2.5,21.79 1.05,21.79 ; 1.05,23.93 2.5,23.93 2.5,24.33 1.05,24.33 ; 1.05,24.33 1.05,-24.765 -1.05,-24.765 -1.05,24.765 0.615,24.765 1.05,24.33
  text "'.Designator'" at 0.84,-4.047 h1
Top Courtyard:
  lines w0.254: -3.5,-25.27 3.5,-25.27 3.5,25.27 -3.5,25.27 -3.5,-25.27
Top Designator:
  text ".Designator" at -7.618,-0.508 h1.52

## PinHeader_1x40_P1.27mm_Horizontal [mm]
pads (40):
  rect 1x1 hole 0.65: 1(0,0)
  round 1 hole 0.65: 2(0,-1.27) 3(0,-2.54) 4(0,-3.81) 5(0,-5.08) 6(0,-6.35) 7(0,-7.62) 8(0,-8.89) 9(0,-10.16) 10(0,-11.43) 11(0,-12.7) 12(0,-13.97) 13(0,-15.24) 14(0,-16.51) 15(0,-17.78) 16(0,-19.05) 17(0,-20.32) 18(0,-21.59) 19(0,-22.86) 20(0,-24.13) 21(0,-25.4) 22(0,-26.67) 23(0,-27.94) 24(0,-29.21) 25(0,-30.48) 26(0,-31.75) 27(0,-33.02) 28(0,-34.29) 29(0,-35.56) 30(0,-36.83) 31(0,-38.1) 32(0,-39.37) 33(0,-40.64) 34(0,-41.91) 35(0,-43.18) 36(0,-44.45) 37(0,-45.72) 38(0,-46.99) 39(0,-48.26) 40(0,-49.53)
F.SilkS:
  drawing of 165 lines, arcs and shapes, not listed
Top Assembly:
  drawing of 245 lines, arcs and shapes, not listed
  text "'.Designator'" at 1.504,-27.193 h0.6
Top Courtyard:
  lines w0.254: -1.14,-50.67 6,-50.67 6,1.14 -1.14,1.14 -1.14,-50.67
Top Designator:
  text ".Designator" at -5.188,-25.273 h1.52

## PinHeader_1x40_P1.27mm_Vertical [mm]
pads (40):
  rect 1x1 hole 0.65: 1(0,0)
  round 1 hole 0.65: 2(0,-1.27) 3(0,-2.54) 4(0,-3.81) 5(0,-5.08) 6(0,-6.35) 7(0,-7.62) 8(0,-8.89) 9(0,-10.16) 10(0,-11.43) 11(0,-12.7) 12(0,-13.97) 13(0,-15.24) 14(0,-16.51) 15(0,-17.78) 16(0,-19.05) 17(0,-20.32) 18(0,-21.59) 19(0,-22.86) 20(0,-24.13) 21(0,-25.4) 22(0,-26.67) 23(0,-27.94) 24(0,-29.21) 25(0,-30.48) 26(0,-31.75) 27(0,-33.02) 28(0,-34.29) 29(0,-35.56) 30(0,-36.83) 31(0,-38.1) 32(0,-39.37) 33(0,-40.64) 34(0,-41.91) 35(0,-43.18) 36(0,-44.45) 37(0,-45.72) 38(0,-46.99) 39(0,-48.26) 40(0,-49.53)
F.SilkS:
  lines w0.254: -1.16,0 -1.16,0.81 0,0.81 ; -0.667,-0.81 -1.16,-0.81 -1.16,-50.275 -0.318,-50.275 ; 0.318,-50.275 1.16,-50.275 1.16,-0.81 0.667,-0.81
Top Assembly:
  lines w0.254: -1.05,-50.165 1.05,-50.165 1.05,0.635 -0.525,0.635 -1.05,0.11 -1.05,-50.165
  text "'.Designator'" at 0.84,-28.812 h1
Top Courtyard:
  lines w0.254: -1.55,-50.67 1.55,-50.67 1.55,1.14 -1.55,1.14 -1.55,-50.67
Top Designator:
  text ".Designator" at -7.618,-25.273 h1.52

## PinHeader_1x40_P1.27mm_Vertical_SMD_Pin1Left [mm]
pads (40):
  rect 3x0.65 smd: 1(-1.5,24.765) 2(1.5,23.495) 3(-1.5,22.225) 4(1.5,20.955) 5(-1.5,19.685) 6(1.5,18.415) 7(-1.5,17.145) 8(1.5,15.875) 9(-1.5,14.605) 10(1.5,13.335) 11(-1.5,12.065) 12(1.5,10.795) 13(-1.5,9.525) 14(1.5,8.255) 15(-1.5,6.985) 16(1.5,5.715) 17(-1.5,4.445) 18(1.5,3.175) 19(-1.5,1.905) 20(1.5,0.635) 21(-1.5,-0.635) 22(1.5,-1.905) 23(-1.5,-3.175) 24(1.5,-4.445) 25(-1.5,-5.715) 26(1.5,-6.985) 27(-1.5,-8.255) 28(1.5,-9.525) 29(-1.5,-10.795) 30(1.5,-12.065) 31(-1.5,-13.335) 32(1.5,-14.605) 33(-1.5,-15.875) 34(1.5,-17.145) 35(-1.5,-18.415) 36(1.5,-19.685) 37(-1.5,-20.955) 38(1.5,-22.225) 39(-1.5,-23.495) 40(1.5,-24.765)
F.SilkS:
  lines w0.254: -2.94,25.4 -1.16,25.4 -1.16,25.51 1.16,25.51 ; -1.16,-24.13 -1.16,-25.51 1.16,-25.51 1.16,-25.4 ; -1.16,-22.86 -1.16,-21.59 ; -1.16,-20.32 -1.16,-19.05 ; -1.16,-17.78 -1.16,-16.51 ; -1.16,-15.24 -1.16,-13.97 ; -1.16,-12.7 -1.16,-11.43 ; -1.16,-10.16 -1.16,-8.89 ; -1.16,-7.62 -1.16,-6.35 ; -1.16,-5.08 -1.16,-3.81 ; -1.16,-2.54 -1.16,-1.27 ; -1.16,0 -1.16,1.27 ; -1.16,2.54 -1.16,3.81 ; -1.16,5.08 -1.16,6.35 ; -1.16,7.62 -1.16,8.89 ; -1.16,10.16 -1.16,11.43 ; -1.16,12.7 -1.16,13.97 ; -1.16,15.24 -1.16,16.51 ; -1.16,17.78 -1.16,19.05 ; -1.16,20.32 -1.16,21.59 ; -1.16,22.86 -1.16,24.13 ; 1.16,-24.13 1.16,-22.86 ; 1.16,-21.59 1.16,-20.32 ; 1.16,-19.05 1.16,-17.78 ; 1.16,-16.51 1.16,-15.24 ; 1.16,-13.97 1.16,-12.7 ; 1.16,-11.43 1.16,-10.16 ; 1.16,-8.89 1.16,-7.62 ; 1.16,-6.35 1.16,-5.08 ; 1.16,-3.81 1.16,-2.54 ; 1.16,-1.27 1.16,0 ; 1.16,1.27 1.16,2.54 ; 1.16,3.81 1.16,5.08 ; 1.16,6.35 1.16,7.62 ; 1.16,8.89 1.16,10.16 ; 1.16,11.43 1.16,12.7 ; 1.16,13.97 1.16,15.24 ; 1.16,16.51 1.16,17.78 ; 1.16,19.05 1.16,20.32 ; 1.16,21.59 1.16,22.86 ; 1.16,24.13 1.16,25.4
Top Assembly:
  lines w0.254: -1.05,-23.695 -2.5,-23.695 -2.5,-23.295 -1.05,-23.295 ; -1.05,-21.155 -2.5,-21.155 -2.5,-20.755 -1.05,-20.755 ; -1.05,-18.615 -2.5,-18.615 -2.5,-18.215 -1.05,-18.215 ; -1.05,-16.075 -2.5,-16.075 -2.5,-15.675 -1.05,-15.675 ; -1.05,-13.535 -2.5,-13.535 -2.5,-13.135 -1.05,-13.135 ; -1.05,-10.995 -2.5,-10.995 -2.5,-10.595 -1.05,-10.595 ; -1.05,-8.455 -2.5,-8.455 -2.5,-8.055 -1.05,-8.055 ; -1.05,-5.915 -2.5,-5.915 -2.5,-5.515 -1.05,-5.515 ; -1.05,-3.375 -2.5,-3.375 -2.5,-2.975 -1.05,-2.975 ; -1.05,-0.835 -2.5,-0.835 -2.5,-0.435 -1.05,-0.435 ; -1.05,1.705 -2.5,1.705 -2.5,2.105 -1.05,2.105 ; -1.05,4.245 -2.5,4.245 -2.5,4.645 -1.05,4.645 ; -1.05,6.785 -2.5,6.785 -2.5,7.185 -1.05,7.185 ; -1.05,9.325 -2.5,9.325 -2.5,9.725 -1.05,9.725 ; -1.05,11.865 -2.5,11.865 -2.5,12.265 -1.05,12.265 ; -1.05,14.405 -2.5,14.405 -2.5,14.805 -1.05,14.805 ; -1.05,16.945 -2.5,16.945 -2.5,17.345 -1.05,17.345 ; -1.05,19.485 -2.5,19.485 -2.5,19.885 -1.05,19.885 ; -1.05,22.025 -2.5,22.025 -2.5,22.425 -1.05,22.425 ; -1.05,24.565 -2.5,24.565 -2.5,24.965 -1.05,24.965 ; 1.05,-24.965 2.5,-24.965 2.5,-24.565 1.05,-24.565 ; 1.05,-22.425 2.5,-22.425 2.5,-22.025 1.05,-22.025 ; 1.05,-19.885 2.5,-19.885 2.5,-19.485 1.05,-19.485 ; 1.05,-17.345 2.5,-17.345 2.5,-16.945 1.05,-16.945 ; 1.05,-14.805 2.5,-14.805 2.5,-14.405 1.05,-14.405 ; 1.05,-12.265 2.5,-12.265 2.5,-11.865 1.05,-11.865 ; 1.05,-9.725 2.5,-9.725 2.5,-9.325 1.05,-9.325 ; 1.05,-7.185 2.5,-7.185 2.5,-6.785 1.05,-6.785 ; 1.05,-4.645 2.5,-4.645 2.5,-4.245 1.05,-4.245 ; 1.05,-2.105 2.5,-2.105 2.5,-1.705 1.05,-1.705 ; 1.05,0.435 2.5,0.435 2.5,0.835 1.05,0.835 ; 1.05,2.975 2.5,2.975 2.5,3.375 1.05,3.375 ; 1.05,5.515 2.5,5.515 2.5,5.915 1.05,5.915 ; 1.05,8.055 2.5,8.055 2.5,8.455 1.05,8.455 ; 1.05,10.595 2.5,10.595 2.5,10.995 1.05,10.995 ; 1.05,13.135 2.5,13.135 2.5,13.535 1.05,13.535 ; 1.05,15.675 2.5,15.675 2.5,16.075 1.05,16.075 ; 1.05,18.215 2.5,18.215 2.5,18.615 1.05,18.615 ; 1.05,20.755 2.5,20.755 2.5,21.155 1.05,21.155 ; 1.05,23.295 2.5,23.295 2.5,23.695 1.05,23.695 ; -1.05,24.965 -1.05,-25.4 1.05,-25.4 1.05,25.4 -0.615,25.4 -1.05,24.965
  text "'.Designator'" at 0.84,-4.047 h1
Top Courtyard:
  lines w0.254: -3.5,-25.9 3.5,-25.9 3.5,25.9 -3.5,25.9 -3.5,-25.9
Top Designator:
  text ".Designator" at -7.618,-0.508 h1.52

## PinHeader_1x40_P1.27mm_Vertical_SMD_Pin1Right [mm]
pads (40):
  rect 3x0.65 smd: 1(1.5,24.765) 2(-1.5,23.495) 3(1.5,22.225) 4(-1.5,20.955) 5(1.5,19.685) 6(-1.5,18.415) 7(1.5,17.145) 8(-1.5,15.875) 9(1.5,14.605) 10(-1.5,13.335) 11(1.5,12.065) 12(-1.5,10.795) 13(1.5,9.525) 14(-1.5,8.255) 15(1.5,6.985) 16(-1.5,5.715) 17(1.5,4.445) 18(-1.5,3.175) 19(1.5,1.905) 20(-1.5,0.635) 21(1.5,-0.635) 22(-1.5,-1.905) 23(1.5,-3.175) 24(-1.5,-4.445) 25(1.5,-5.715) 26(-1.5,-6.985) 27(1.5,-8.255) 28(-1.5,-9.525) 29(1.5,-10.795) 30(-1.5,-12.065) 31(1.5,-13.335) 32(-1.5,-14.605) 33(1.5,-15.875) 34(-1.5,-17.145) 35(1.5,-18.415) 36(-1.5,-19.685) 37(1.5,-20.955) 38(-1.5,-22.225) 39(1.5,-23.495) 40(-1.5,-24.765)
F.SilkS:
  lines w0.254: -1.16,-25.4 -1.16,-25.51 1.16,-25.51 1.16,-24.13 ; -1.16,-24.13 -1.16,-22.86 ; -1.16,-21.59 -1.16,-20.32 ; -1.16,-19.05 -1.16,-17.78 ; -1.16,-16.51 -1.16,-15.24 ; -1.16,-13.97 -1.16,-12.7 ; -1.16,-11.43 -1.16,-10.16 ; -1.16,-8.89 -1.16,-7.62 ; -1.16,-6.35 -1.16,-5.08 ; -1.16,-3.81 -1.16,-2.54 ; -1.16,-1.27 -1.16,0 ; -1.16,1.27 -1.16,2.54 ; -1.16,3.81 -1.16,5.08 ; -1.16,6.35 -1.16,7.62 ; -1.16,8.89 -1.16,10.16 ; -1.16,11.43 -1.16,12.7 ; -1.16,13.97 -1.16,15.24 ; -1.16,16.51 -1.16,17.78 ; -1.16,19.05 -1.16,20.32 ; -1.16,21.59 -1.16,22.86 ; -1.16,25.51 1.16,25.51 1.16,25.4 2.94,25.4 ; 1.16,-22.86 1.16,-21.59 ; 1.16,-20.32 1.16,-19.05 ; 1.16,-17.78 1.16,-16.51 ; 1.16,-15.24 1.16,-13.97 ; 1.16,-12.7 1.16,-11.43 ; 1.16,-10.16 1.16,-8.89 ; 1.16,-7.62 1.16,-6.35 ; 1.16,-5.08 1.16,-3.81 ; 1.16,-2.54 1.16,-1.27 ; 1.16,0 1.16,1.27 ; 1.16,2.54 1.16,3.81 ; 1.16,5.08 1.16,6.35 ; 1.16,7.62 1.16,8.89 ; 1.16,10.16 1.16,11.43 ; 1.16,12.7 1.16,13.97 ; 1.16,15.24 1.16,16.51 ; 1.16,17.78 1.16,19.05 ; 1.16,20.32 1.16,21.59 ; 1.16,22.86 1.16,24.13 ; -1.16,24.13 -1.16,25.4 -1.16,24.13
Top Assembly:
  lines w0.254: -1.05,-24.965 -2.5,-24.965 -2.5,-24.565 -1.05,-24.565 ; -1.05,-22.425 -2.5,-22.425 -2.5,-22.025 -1.05,-22.025 ; -1.05,-19.885 -2.5,-19.885 -2.5,-19.485 -1.05,-19.485 ; -1.05,-17.345 -2.5,-17.345 -2.5,-16.945 -1.05,-16.945 ; -1.05,-14.805 -2.5,-14.805 -2.5,-14.405 -1.05,-14.405 ; -1.05,-12.265 -2.5,-12.265 -2.5,-11.865 -1.05,-11.865 ; -1.05,-9.725 -2.5,-9.725 -2.5,-9.325 -1.05,-9.325 ; -1.05,-7.185 -2.5,-7.185 -2.5,-6.785 -1.05,-6.785 ; -1.05,-4.645 -2.5,-4.645 -2.5,-4.245 -1.05,-4.245 ; -1.05,-2.105 -2.5,-2.105 -2.5,-1.705 -1.05,-1.705 ; -1.05,0.435 -2.5,0.435 -2.5,0.835 -1.05,0.835 ; -1.05,2.975 -2.5,2.975 -2.5,3.375 -1.05,3.375 ; -1.05,5.515 -2.5,5.515 -2.5,5.915 -1.05,5.915 ; -1.05,8.055 -2.5,8.055 -2.5,8.455 -1.05,8.455 ; -1.05,10.595 -2.5,10.595 -2.5,10.995 -1.05,10.995 ; -1.05,13.135 -2.5,13.135 -2.5,13.535 -1.05,13.535 ; -1.05,15.675 -2.5,15.675 -2.5,16.075 -1.05,16.075 ; -1.05,18.215 -2.5,18.215 -2.5,18.615 -1.05,18.615 ; -1.05,20.755 -2.5,20.755 -2.5,21.155 -1.05,21.155 ; -1.05,23.295 -2.5,23.295 -2.5,23.695 -1.05,23.695 ; 1.05,-23.695 2.5,-23.695 2.5,-23.295 1.05,-23.295 ; 1.05,-21.155 2.5,-21.155 2.5,-20.755 1.05,-20.755 ; 1.05,-18.615 2.5,-18.615 2.5,-18.215 1.05,-18.215 ; 1.05,-16.075 2.5,-16.075 2.5,-15.675 1.05,-15.675 ; 1.05,-13.535 2.5,-13.535 2.5,-13.135 1.05,-13.135 ; 1.05,-10.995 2.5,-10.995 2.5,-10.595 1.05,-10.595 ; 1.05,-8.455 2.5,-8.455 2.5,-8.055 1.05,-8.055 ; 1.05,-5.915 2.5,-5.915 2.5,-5.515 1.05,-5.515 ; 1.05,-3.375 2.5,-3.375 2.5,-2.975 1.05,-2.975 ; 1.05,-0.835 2.5,-0.835 2.5,-0.435 1.05,-0.435 ; 1.05,1.705 2.5,1.705 2.5,2.105 1.05,2.105 ; 1.05,4.245 2.5,4.245 2.5,4.645 1.05,4.645 ; 1.05,6.785 2.5,6.785 2.5,7.185 1.05,7.185 ; 1.05,9.325 2.5,9.325 2.5,9.725 1.05,9.725 ; 1.05,11.865 2.5,11.865 2.5,12.265 1.05,12.265 ; 1.05,14.405 2.5,14.405 2.5,14.805 1.05,14.805 ; 1.05,16.945 2.5,16.945 2.5,17.345 1.05,17.345 ; 1.05,19.485 2.5,19.485 2.5,19.885 1.05,19.885 ; 1.05,22.025 2.5,22.025 2.5,22.425 1.05,22.425 ; 1.05,24.565 2.5,24.565 2.5,24.965 1.05,24.965 ; 1.05,24.965 1.05,-25.4 -1.05,-25.4 -1.05,25.4 0.615,25.4 1.05,24.965
  text "'.Designator'" at 0.84,-4.047 h1
Top Courtyard:
  lines w0.254: -3.5,-25.9 3.5,-25.9 3.5,25.9 -3.5,25.9 -3.5,-25.9
Top Designator:
  text ".Designator" at -7.618,-0.508 h1.52

## PinHeader_2x01_P1.27mm_Horizontal [mm]
pads (2):
  rect 1x1 hole 0.65: 1(0,0)
  round 1 hole 0.65: 2(1.27,0)
F.SilkS:
  lines w0.254: -0.81,0 -0.81,0.81 0,0.81 ; 1.588,0.745 2.88,0.745 2.88,-0.745 1.66,-0.745 ; 2.88,-0.31 6.88,-0.31 6.88,0.31 2.88,0.31 2.88,-0.31
Top Assembly:
  lines w0.254: 1.77,-0.2 -0.2,-0.2 -0.2,0.2 1.77,0.2 ; 2.77,-0.2 6.77,-0.2 6.77,0.2 2.77,0.2 ; 1.77,-0.635 2.77,-0.635 2.77,0.635 2.02,0.635 1.77,0.385 1.77,-0.635
  text "'.Designator'" at 2.774,-2.428 h0.6
Top Courtyard:
  lines w0.254: -1.14,-1.14 7.28,-1.14 7.28,1.14 -1.14,1.14 -1.14,-1.14
Top Designator:
  text ".Designator" at -4.548,-0.598 h1.52

## PinHeader_2x01_P1.27mm_Vertical [mm]
pads (2):
  rect 1x1 hole 0.65: 1(0,0)
  round 1 hole 0.65: 2(1.27,0)
F.SilkS:
  lines w0.254: -1.18,-0.745 -1.18,-0.81 ; -1.18,0 -1.18,0.81 0,0.81 ; -0.667,-0.81 -1.18,-0.81 ; 1.588,0.745 2.45,0.745 2.45,-0.745 ; 2.45,-0.81 -1.18,-0.81
Top Assembly:
  lines w0.254: -1.07,-0.635 2.34,-0.635 2.34,0.635 -0.218,0.635 -1.07,-0.218 -1.07,-0.635
  text "'.Designator'" at 1.475,-4.047 h1
Top Courtyard:
  lines w0.254: -1.57,-1.14 2.84,-1.14 2.84,1.14 -1.57,1.14 -1.57,-1.14
Top Designator:
  text ".Designator" at -6.983,-0.658 h1.52